# EAGLE library part MAX30105 (library SparkFun-Sensors)
MAX30105 High Sensitivity Optical Sensor Can be used for Pulse Detection, Pulse Ox, and possible visual particle detection. I2C communication. Datasheet <https://datasheets.maximintegrated.com/en/ds/MAX30105.pdf> SparkFun Products: SparkFun Particle Sensor Breakout - MAX30105 <https://www.sparkfun.com/products/14045>
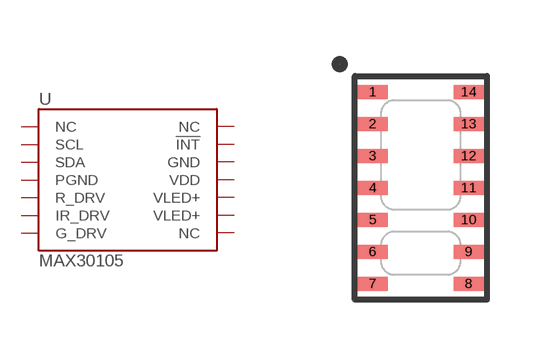
[diagram p34: symbol with the pads of OLGA-14; footprint OLGA-14]

Designator prefix U

## MAX30105SMD (PROD_ID: IC-13510; VALUE: MAX30105)  [OLGA-14]
1  NC
2  SCL
3  SDA
4  PGND
5  R_DRV
6  IR_DRV
7  G_DRV
8  NC
9  VLED+
10  VLED+
11  VDD
12  GND
13  !INT
14  NC

## Footprint OLGA-14 (pad centres in mm)
OLGA - 14 Pin Specifications: Pin count: 14 Datasheet referenced for footprint <https://datasheets.maximintegrated.com/en/ds/MAX30105.pdf> Example device(s): MAX30105
smd 0.75 x 0.35: 1 -1.2,2.4; 2 -1.2,1.6; 3 -1.2,0.8; 4 -1.2,0; 5 -1.2,-0.8; 6 -1.2,-1.6; 7 -1.2,-2.4; 8 1.2,-2.4; 9 1.2,-1.6; 10 1.2,-0.8; 11 1.2,0; 12 1.2,0.8; 13 1.2,1.6; 14 1.2,2.4